# Altium footprint library PCB1.PcbLib: 53 footprints (part 1 of 4)
Each footprint in its own frame and in the unit in brackets; x right, y up, seen from the top. Pads: shape width x height; smd on the part's side, far side on the other; paste and mask are expansions set on the pad; w line width, h text height; cw(c..) or ccw(c..) is an arc to the next point about the centre after c.
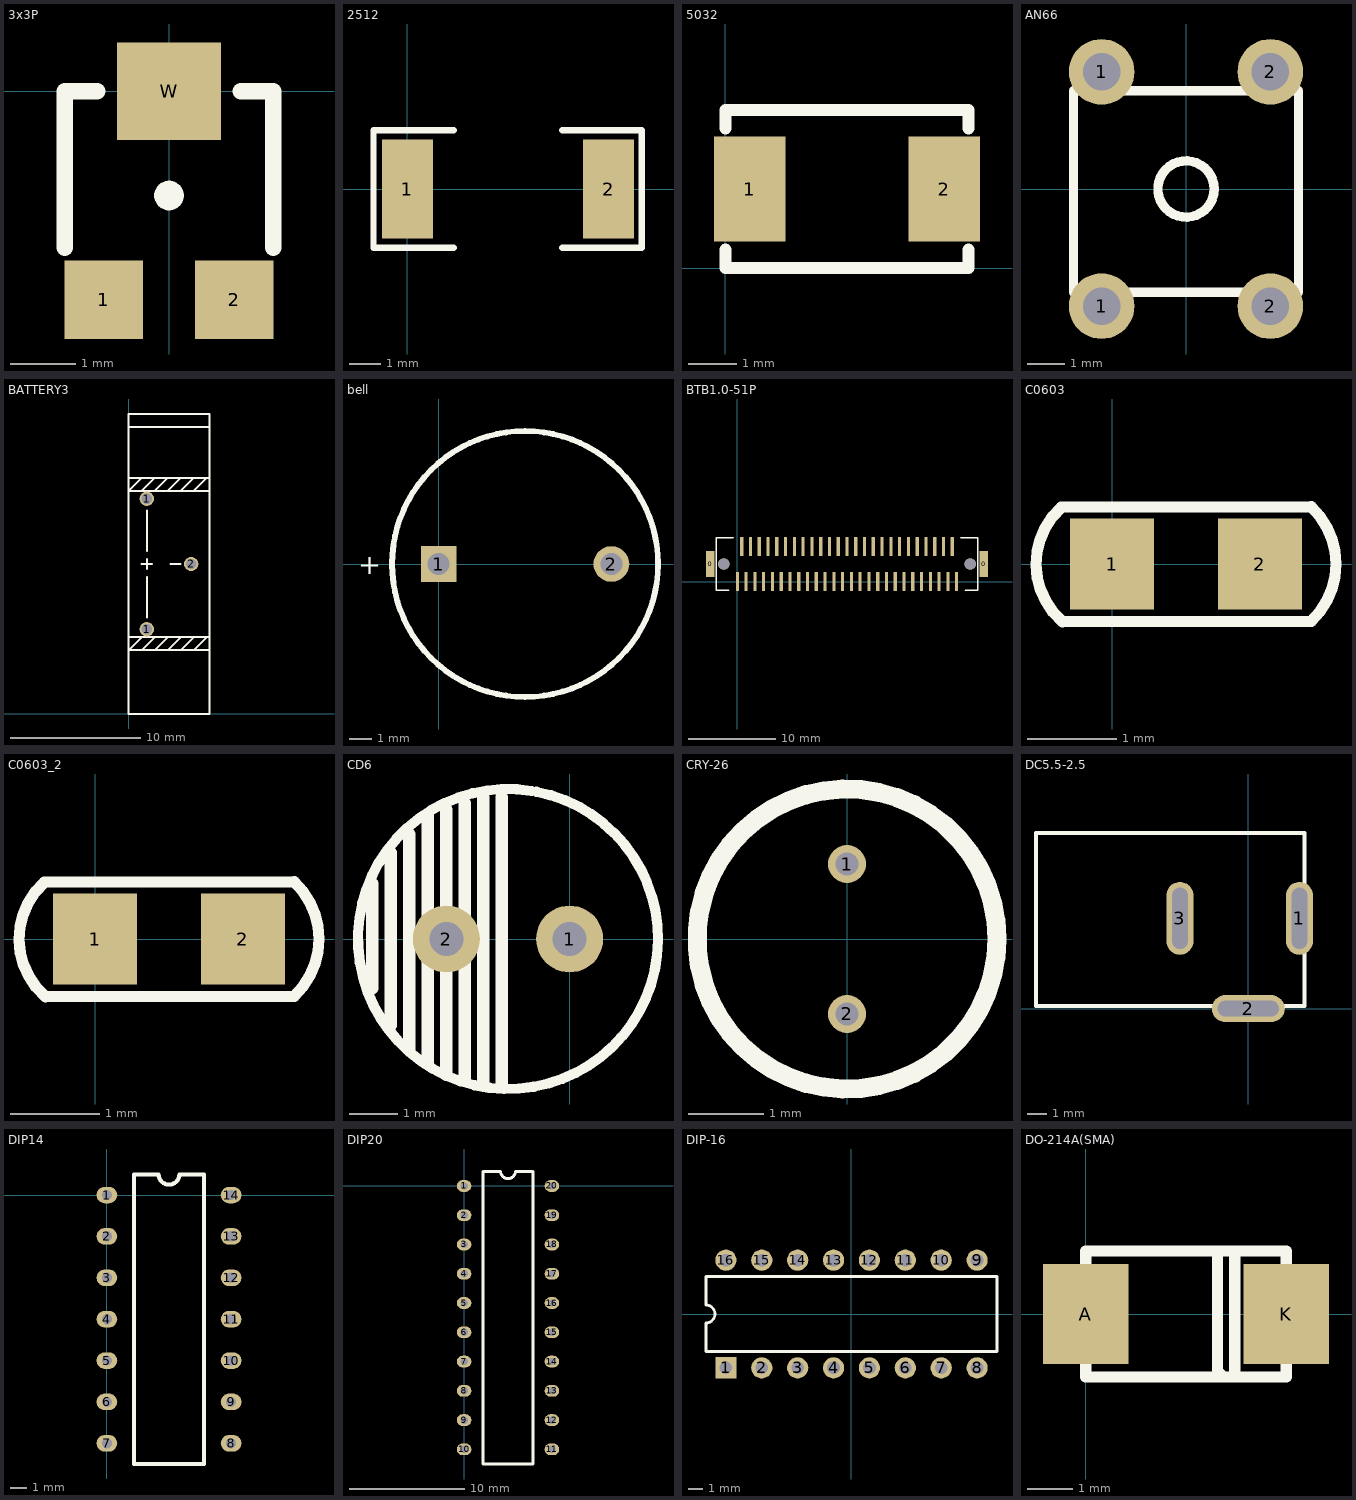
[diagram p0: the footprints below, top view; thin cyan lines are the x and y axes]

## 3x3P [mm]
pads (3):
  rect 1.2x1.2 smd: 1(-1,-3.2) 2(1,-3.2)
  rect 1.6x1.5 smd: W(0,0)
Top Overlay:
  circle w0.254: c0,-1.6 r0.1
  lines w0.254: -1.6,-2.4 -1.6,0 -1.1,0 ; 1.1,0 1.6,0 1.6,-2.4

## 2512 [mm]
pads (2):
  rect 1.65x3.2 smd: 1(0,0) 2(6.5,0)
Top Overlay:
  lines w0.203: 1.5,-1.9 -1.1,-1.9 -1.1,1.9 1.5,1.9 ; 5,-1.9 7.5,-1.9 ; 5,1.9 7.578,1.9 7.578,-1.9

## 5032 [mil]
pads (2):
  rect 59.06x86.61 smd: 1(20,65) 2(180,65)
Top Overlay:
  lines w10: 0,15 0,0 200,0 200,15 ; 0,115 0,130 200,130 200,115

## AN66 [mil]
pads (4):
  round 70 hole 40: 1(-90,-125) 1(-90,125) 2(90,-125) 2(90,125)
Top Overlay:
  circle w10: c0,0 r30
  lines w10: -120,-110 -120,105 120,105 120,-110 -120,-110

## BATTERY3 [mm]
pads (3):
  round 1.1 hole 0.8: 1(1.4,6.5) 1(1.4,16.5) 2(4.8,11.5)
Top Overlay:
  lines w0.15: 0,5.9 6.2,5.9 ; 0,18.1 6.2,18.1 ; 0,22 6.2,22 ; 1,4.9 2,5.9 ; 1,5.9 0,4.9 6.2,4.9 ; 1,11.5 1.8,11.5 ; 1,17.1 2,18.1 ; 1,18.1 0,17.1 6.2,17.1 ; 1.4,7.4 1.4,10.5 ; 1.4,11.1 1.4,11.9 ; 1.4,12.5 1.4,15.6 ; 2,4.9 3,5.9 ; 2,17.1 3,18.1 ; 3,4.9 4,5.9 ; 3,17.1 4,18.1 ; 3.2,11.5 4,11.5 ; 4,4.9 5,5.9 ; 4,17.1 5,18.1 ; 5,4.9 6,5.9 ; 5,17.1 6,18.1 ; 0,0 0,23 6.2,23 6.2,0 0,0

## bell [mil]
pads (2):
  rect 62x62 hole 38: 1(0,0)
  round 62 hole 38: 2(300,0)
Top Overlay:
  circle w10: c150,0 r230.87
  text "+" at -140,-30 h60

## BTB1.0-51P [mm]
pads (53):
  rect 1x3 smd: 0(-3.1,2) 0(28.1,2)
  rect 0.36x2.2 smd: 1(0,0) 2(1,0) 3(2,0) 4(3,0) 5(4,0) 6(5,0) 7(6,0) 8(7,0) 9(8,0) 10(9,0) 11(10,0) 12(11,0) 13(12,0) 14(13,0) 15(14,0) 16(15,0) 17(16,0) 18(17,0) 19(18,0) 20(19,0) 21(20,0) 22(21,0) 23(22,0) 24(23,0) 25(24,0) 26(25,0) 27(24.5,4) 28(23.5,4) 29(22.5,4) 30(21.5,4) 31(20.5,4) 32(19.5,4) 33(18.5,4) 34(17.5,4) 35(16.5,4) 36(15.5,4) 37(14.5,4) 38(13.5,4) 39(12.5,4) 40(11.5,4) 41(10.5,4) 42(9.5,4) 43(8.5,4) 44(7.5,4) 45(6.5,4) 46(5.5,4) 47(4.5,4) 48(3.5,4) 49(2.5,4) 50(1.5,4) 51(0.5,4)
via -1.55,2 diameter 1.3 hole 1.3
via 26.55,2 diameter 1.3 hole 1.3
Top Overlay:
  lines w0.203: -1,-1 -2.4,-1 -2.4,5 -0.5,5 ; 25.5,5 27.4,5 27.4,-1 26,-1

## C0603 [mil]
pads (2):
  rect 37.01x40 smd: 1(0,0)
  rect 37x40 smd: 2(64.98,0)
Top Overlay:
  lines w5: -22.44,24.9 ccw(c-0.02,0) -21.86,-25.4 87.58,-25.17 ccw(c63.98,0) 87.6,25.15 -22.43,24.9

## C0603_2 [mil]
pads (2):
  rect 37.01x40 smd: 1(0,0)
  rect 37x40 smd: 2(64.98,0)
Top Overlay:
  lines w5: -22.44,24.9 ccw(c-0.02,0) -21.86,-25.4 87.58,-25.17 ccw(c63.98,0) 87.6,25.15 -22.43,24.9

## CD6 [mm]
pads (2):
  round 1.38 hole 0.7: 1(0,0) 2(-2.54,0)
Top Overlay:
  lines w0.21: -0.787,3.052 ccw(c-1.27,0) -0.68,3.033
  lines w0.254: -4.064,-1.016 -4.064,1.143 ; -3.683,-1.778 -3.683,1.778 ; -3.302,-2.286 -3.302,2.159 ; -2.921,-2.54 -2.921,2.54 ; -2.54,-2.794 -2.54,2.667 ; -2.159,-2.921 -2.159,2.794 ; -1.778,-2.921 -1.778,2.921 ; -1.397,-3.048 -1.397,2.921

## CRY-26 [mil] "CRYSTAL"
pads (2):
  round 20 hole 12: 1(0,39.37) 2(0,-39.37)
Top Overlay:
  circle w10: c0,0 r78.74

## DC5.5-2.5 [mm]
pads (3):
  oval 1.4x3.8 hole 0.8 slot 3.2 at 90 deg: 1(2.667,4.699) 3(-3.556,4.699)
  oval 3.8x1.4 hole 0.8 slot 3.2 at 0 deg: 2(0,0)
Top Overlay:
  lines w0.203: -11.049,0.127 2.921,0.127 2.921,9.144 -11.049,9.144 -11.049,0.127

## DIP14 [mil]
pads (14):
  oval 50x40 hole 25: 1(0,0) 2(0,-100) 3(0,-200) 4(0,-300) 5(0,-400) 6(0,-500) 7(0,-600) 8(300,-600) 9(300,-500) 10(300,-400) 11(300,-300) 12(300,-200) 13(300,-100) 14(300,0)
Top Overlay:
  lines w10: 65,-650 65,50 125,50 ccw(c150,50) 175,50 235,50 235,-650 65,-650

## DIP20 [mil]
pads (20):
  oval 50x40 hole 25: 1(0,0) 2(0,-100) 3(0,-200) 4(0,-300) 5(0,-400) 6(0,-500) 7(0,-600) 8(0,-700) 9(0,-800) 10(0,-900) 11(300,-900) 12(300,-800) 13(300,-700) 14(300,-600) 15(300,-500) 16(300,-400) 17(300,-300) 18(300,-200) 19(300,-100) 20(300,0)
Top Overlay:
  lines w10: 65,-950 235,-950 235,50 175,50 cw(c150,50) 125,50 65,50 65,-950

## DIP-16 [mm] "DIP; 16 Leads; Row Spacing 7.62 mm; Pitch 2.54 mm"
height 5.08
pads (16):
  rect 1.5x1.5 hole 0.9: 1(-8.89,-3.81)
  round 1.5 hole 0.9: 2(-6.35,-3.81) 3(-3.81,-3.81) 4(-1.27,-3.81) 5(1.27,-3.81) 6(3.81,-3.81) 7(6.35,-3.81) 8(8.89,-3.81) 9(8.89,3.81) 10(6.35,3.81) 11(3.81,3.81) 12(1.27,3.81) 13(-1.27,3.81) 14(-3.81,3.81) 15(-6.35,3.81) 16(-8.89,3.81)
Top Overlay:
  lines w0.2: -10.3,-2.65 -10.3,-0.635 ccw(c-10.3,0) -10.3,0.635 -10.3,2.65 10.3,2.65 10.3,-2.65 -10.3,-2.65

## DO-214A(SMA) [mil]
pads (2):
  rect 75x87 smd: A(0,0) K(175,0)
Top Overlay:
  lines w10: 0,-45 0,-55 175,-55 175,-45 ; 0,45 0,55 175,55 175,45 ; 115,55 115,-50 120,-55 ; 130,-55 130,55